# Altium footprint library PcbLib1.PcbLib: 35 footprints (part 1 of 3)
Each footprint in its own frame and in the unit in brackets; x right, y up, seen from the top. Pads: shape width x height; smd on the part's side, far side on the other; paste and mask are expansions set on the pad; w line width, h text height; cw(c..) or ccw(c..) is an arc to the next point about the centre after c.
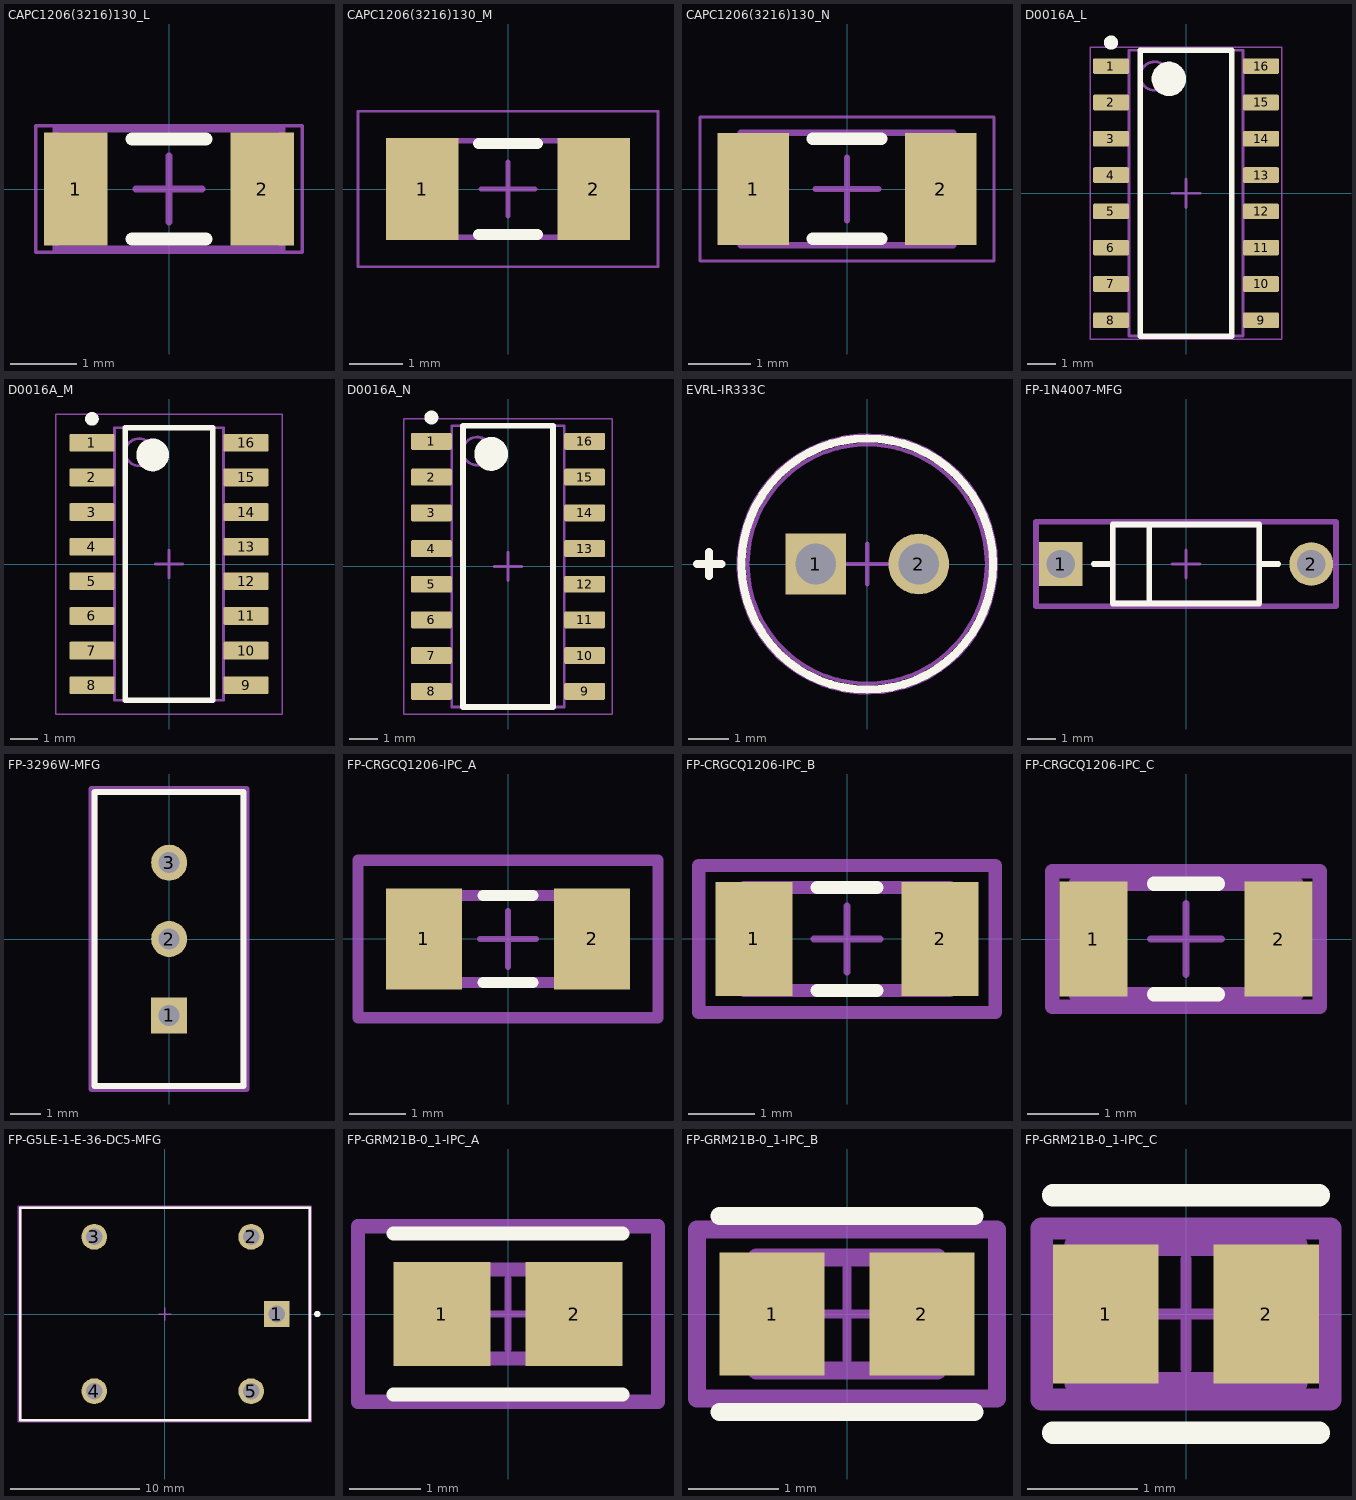
[diagram p0: the footprints below, top view; thin cyan lines are the x and y axes]

## CAPC1206(3216)130_L [mm] "Chip Capacitor, Body 3.2x1.6mm, Height 1.3mm, IPC High Density"
height 1.3
pads (2):
  rect 0.95x1.7 smd: 1(-1.4,0) 2(1.4,0)
Top Overlay:
  lines w0.2: -0.55,-0.75 0.55,-0.75 ; -0.55,0.75 0.55,0.75
Top 3D Body:
  lines w0.1: -1.7,-0.9 -1.7,0.9 1.7,0.9 1.7,-0.9 -1.7,-0.9
Top Courtyard:
  lines w0.05: -2,-0.95 -2,0.95 2,0.95 2,-0.95 -2,-0.95
  lines w0.1: -0.5,0 0.5,0 ; 0,-0.5 0,0.5
3D body: height 1.3, standoff 0, extent -1.4,-1 1,0.8
3D body: height 1.3, standoff 0, extent -1.7,-0.9 -1.2,0.9
3D body: height 1.3, standoff 0, extent 1.2,-0.9 1.7,0.9

## CAPC1206(3216)130_M [mm] "Chip Capacitor, Body 3.2x1.6mm, Height 1.3mm, IPC Low Density"
height 1.3
pads (2):
  rect 1.35x1.9 smd: 1(-1.6,0) 2(1.6,0)
Top Overlay:
  lines w0.2: -0.55,-0.85 0.55,-0.85 ; -0.55,0.85 0.55,0.85
Top 3D Body:
  lines w0.1: -1.7,-0.9 1.7,-0.9 1.7,0.9 -1.7,0.9 -1.7,-0.9
Top Courtyard:
  lines w0.05: -2.8,-1.45 2.8,-1.45 2.8,1.45 -2.8,1.45 -2.8,-1.45
  lines w0.1: -0.5,0 0.5,0 ; 0,-0.5 0,0.5
3D body: height 1.3, standoff 0, extent 1.2,-0.9 1.7,0.9
3D body: height 1.3, standoff 0, extent -1.7,-0.9 -1.2,0.9
3D body: height 1.3, standoff 0, extent -1.2,-0.9 1.2,0.9

## CAPC1206(3216)130_N [mm] "Chip Capacitor, Body 3.2x1.6mm, Height 1.3mm, IPC Medium Density"
height 1.3
pads (2):
  rect 1.15x1.8 smd: 1(-1.5,0) 2(1.5,0)
Top Overlay:
  lines w0.2: -0.55,-0.8 0.55,-0.8 ; -0.55,0.8 0.55,0.8
Top 3D Body:
  lines w0.1: -1.7,-0.9 1.7,-0.9 1.7,0.9 -1.7,0.9 -1.7,-0.9
Top Courtyard:
  lines w0.05: -2.35,-1.15 2.35,-1.15 2.35,1.15 -2.35,1.15 -2.35,-1.15
  lines w0.1: -0.5,0 0.5,0 ; 0,-0.5 0,0.5
3D body: height 1.3, standoff 0, extent 1.2,-0.9 1.7,0.9
3D body: height 1.3, standoff 0, extent -1.7,-0.9 -1.2,0.9
3D body: height 1.3, standoff 0, extent -1.2,-0.9 1.2,0.9

## D0016A_L [mm] "SOIC, 16-Leads, Body 10x4mm, Pitch 1.27mm, IPC High Density"
height 1.75
pads (16):
  rrect18% 1.25x0.55 smd: 1(-2.625,4.445) 2(-2.625,3.175) 3(-2.625,1.905) 4(-2.625,0.635) 5(-2.625,-0.635) 6(-2.625,-1.905) 7(-2.625,-3.175) 8(-2.625,-4.445) 9(2.625,-4.445) 10(2.625,-3.175) 11(2.625,-1.905) 12(2.625,-0.635) 13(2.625,0.635) 14(2.625,1.905) 15(2.625,3.175) 16(2.625,4.445)
Top Overlay:
  circle w0.6: c-0.6,4 r0.3
  circle w0.25: c-2.625,5.27 r0.125
  lines w0.2: -1.6,-5 1.6,-5 1.6,5 -1.6,5 -1.6,-5
Mechanical 1:
  text ".Designator" at -1.531,-0.319 h0.8
Top 3D Body:
  circle w0.1: c-1.1,4.1 r0.5
  lines w0.1: -2,-5 2,-5 2,5 -2,5 -2,-5
Top Courtyard:
  lines w0.05: -3.35,-5.1 3.35,-5.1 3.35,5.1 -3.35,5.1 -3.35,-5.1
  lines w0.1: -0.5,0 0.5,0 ; 0,-0.5 0,0.5
3D body "SOIC-16akaD0016AakaM16A.stp": height 1.59, standoff -0.01, extent -2.997,-4.953 2.997,4.953

## D0016A_M [mm] "SOIC, 16-Leads, Body 10x4mm, Pitch 1.27mm, IPC Low Density"
height 1.75
pads (16):
  rrect15% 1.65x0.65 smd: 1(-2.825,4.445) 2(-2.825,3.175) 3(-2.825,1.905) 4(-2.825,0.635) 5(-2.825,-0.635) 6(-2.825,-1.905) 7(-2.825,-3.175) 8(-2.825,-4.445) 9(2.825,-4.445) 10(2.825,-3.175) 11(2.825,-1.905) 12(2.825,-0.635) 13(2.825,0.635) 14(2.825,1.905) 15(2.825,3.175) 16(2.825,4.445)
Top Overlay:
  circle w0.25: c-2.825,5.32 r0.125
  circle w0.6: c-0.6,4 r0.3
  lines w0.2: -1.6,-5 -1.6,5 1.6,5 1.6,-5 -1.6,-5
Mechanical 1:
  text ".Designator" at -1.575,-0.35 h0.8
Top 3D Body:
  circle w0.1: c-1.1,4.1 r0.5
  lines w0.1: -2,-5 -2,5 2,5 2,-5 -2,-5
Top Courtyard:
  lines w0.05: -4.15,-5.5 -4.15,5.5 4.15,5.5 4.15,-5.5 -4.15,-5.5
  lines w0.1: -0.5,0 0.5,0 ; 0,-0.5 0,0.5
3D body "SOIC-16akaD0016AakaM16A.stp": height 1.59, standoff -0.01, extent -2.997,-4.953 2.997,4.953

## D0016A_N [mm] "SOIC, 16-Leads, Body 10x4mm, Pitch 1.27mm, IPC Medium Density"
height 1.75
pads (16):
  rrect17% 1.45x0.6 smd: 1(-2.725,4.445) 2(-2.725,3.175) 3(-2.725,1.905) 4(-2.725,0.635) 5(-2.725,-0.635) 6(-2.725,-1.905) 7(-2.725,-3.175) 8(-2.725,-4.445) 9(2.725,-4.445) 10(2.725,-3.175) 11(2.725,-1.905) 12(2.725,-0.635) 13(2.725,0.635) 14(2.725,1.905) 15(2.725,3.175) 16(2.725,4.445)
Top Overlay:
  circle w0.6: c-0.6,4 r0.3
  circle w0.25: c-2.725,5.295 r0.125
  lines w0.2: -1.6,-5 1.6,-5 1.6,5 -1.6,5 -1.6,-5
Mechanical 1:
  text ".Designator" at -1.575,-0.275 h0.8
Top 3D Body:
  circle w0.1: c-1.1,4.1 r0.5
  lines w0.1: -2,-5 2,-5 2,5 -2,5 -2,-5
Top Courtyard:
  lines w0.05: -3.7,-5.25 3.7,-5.25 3.7,5.25 -3.7,5.25 -3.7,-5.25
  lines w0.1: -0.5,0 0.5,0 ; 0,-0.5 0,0.5
3D body "SOIC-16akaD0016AakaM16A.stp": height 1.59, standoff -0.01, extent -2.997,-4.953 2.997,4.953

## EVRL-IR333C [mm] "TH, 2-Leads, Radius 2.95mm, Pitch 2.54mm"
height 10.4
pads (2):
  rect 1.5x1.5 hole 1: 1(-1.27,0)
  round 1.5 hole 1: 2(1.27,0)
Top Overlay:
  circle w0.2: c0,0 r3.1
  lines w0.2: -4.2,0 -3.6,0 ; -3.9,-0.3 -3.9,0.3
Top 3D Body:
  circle w0.1: c0,0 r2.95
Top Courtyard:
  circle w0.05: c0,0 r3.2
  lines w0.1: -0.5,0 0.5,0 ; 0,-0.5 0,0.5
3D body: height 10.4, standoff 1.5, extent -2.499,-2.499 2.499,2.499
3D body: height 2.5, standoff 1.5, extent -2.949,-2.949 2.949,2.949

## FP-1N4007-MFG [mm]
pads (2):
  rect 1.55x1.55 hole 1 paste-2539.97 mask+0: 1(-4.44,0)
  round 1.55 hole 1 paste-2539.97 mask+0: 2(4.44,0)
Top Overlay:
  lines w0.2: -3.265,0 -2.6,0 ; -1.3,-1.33 -1.3,1.33 ; 2.6,0 3.265,0 ; -2.6,-1.4 2.6,-1.4 2.6,1.4 -2.6,1.4 -2.6,-1.4
Top Assembly:
  lines w0.2: -5.315,-1.5 5.315,-1.5 5.315,1.5 -5.315,1.5 -5.315,-1.5
  text ".Designator" at 0,0.188 h1
Top 3D Body:
  lines w0.2: -2.6,-1.4 2.6,-1.4 2.6,1.4 -2.6,1.4 -2.6,-1.4
Top Courtyard:
  lines w0.2: -5.315,-1.5 5.315,-1.5 5.315,1.5 -5.315,1.5 -5.315,-1.5
Top Component Center:
  lines w0.1: -0.5,0 0.5,0 ; 0,-0.5 0,0.5
3D body "Diode_Diotec_1N4007_eec.STEP": height 0.25, standoff 0, extent -5.315,-1.5 5.315,1.5

## FP-3296W-MFG [mm]
pads (3):
  rect 1.2x1.2 hole 0.7 paste-2539.97 mask+0: 1(0.005,-2.54)
  round 1.2 hole 0.7 paste-2539.97 mask+0: 2(0.005,0) 3(0.005,2.54)
Top Overlay:
  lines w0.2: -2.48,-4.89 2.48,-4.89 2.48,4.89 -2.48,4.89 -2.48,-4.89
Top Assembly:
  lines w0.2: -2.58,-4.99 2.58,-4.99 2.58,4.99 -2.58,4.99 -2.58,-4.99
  text ".Designator" at 0,-0.001 h1
Top 3D Body:
  lines w0.2: -2.48,-4.89 2.48,-4.89 2.48,4.89 -2.48,4.89 -2.48,-4.89
Top Courtyard:
  lines w0.2: -2.58,-4.99 2.58,-4.99 2.58,4.99 -2.58,4.99 -2.58,-4.99
Top Component Center:
  lines w0.1: -0.5,0 0.5,0 ; 0,-0.5 0,0.5
3D body "Res_Bourns_3296W-1-103RLF_eec.STEP": height 0.25, standoff 0, extent -2.58,-4.99 2.58,4.99

## FP-CRGCQ1206-IPC_A [mm]
pads (2):
  rect 1.356x1.81 smd paste+0 mask+0: 1(-1.501,0) 2(1.501,0)
Top Overlay:
  lines w0.2: -0.448,-0.775 0.448,-0.775 ; -0.448,0.775 0.448,0.775
Top Assembly:
  lines w0.2: -2.679,-1.405 -2.679,1.405 2.679,1.405 2.679,-1.405 -2.679,-1.405
  text ".Designator" at 0,0.188 h1
Top 3D Body:
  lines w0.2: -1.55,-0.775 -1.55,0.775 1.55,0.775 1.55,-0.775 -1.55,-0.775
Top Courtyard:
  lines w0.2: -2.679,-1.405 -2.679,1.405 2.679,1.405 2.679,-1.405 -2.679,-1.405
Top Component Center:
  lines w0.1: -0.5,0 0.5,0 ; 0,-0.5 0,0.5
3D body "Res_TE_Connectivity_CRGCQ1206F33R_eec.STEP": height 0.25, standoff 0, extent -2.679,-1.405 2.679,1.405

## FP-CRGCQ1206-IPC_B [mm]
pads (2):
  rect 1.156x1.71 smd paste+0 mask+0: 1(-1.401,0) 2(1.401,0)
Top Overlay:
  lines w0.2: -0.448,-0.775 0.448,-0.775 ; -0.448,0.775 0.448,0.775
Top Assembly:
  lines w0.2: -2.229,-1.105 -2.229,1.105 2.229,1.105 2.229,-1.105 -2.229,-1.105
  text ".Designator" at 0,0.188 h1
Top 3D Body:
  lines w0.2: -1.55,-0.775 -1.55,0.775 1.55,0.775 1.55,-0.775 -1.55,-0.775
Top Courtyard:
  lines w0.2: -2.229,-1.105 -2.229,1.105 2.229,1.105 2.229,-1.105 -2.229,-1.105
Top Component Center:
  lines w0.1: -0.5,0 0.5,0 ; 0,-0.5 0,0.5
3D body "Res_TE_Connectivity_CRGCQ1206F33R_eec.STEP": height 0.25, standoff 0, extent -2.229,-1.105 2.229,1.105

## FP-CRGCQ1206-IPC_C [mm]
pads (2):
  rect 0.956x1.61 smd paste+0 mask+0: 1(-1.301,0) 2(1.301,0)
Top Overlay:
  lines w0.2: -0.448,-0.775 0.448,-0.775 ; -0.448,0.775 0.448,0.775
Top Assembly:
  lines w0.2: -1.879,-0.95 -1.879,0.95 1.879,0.95 1.879,-0.95 -1.879,-0.95
  text ".Designator" at 0,0.188 h1
Top 3D Body:
  lines w0.2: -1.55,-0.775 -1.55,0.775 1.55,0.775 1.55,-0.775 -1.55,-0.775
Top Courtyard:
  lines w0.2: -1.879,-0.95 -1.879,0.95 1.879,0.95 1.879,-0.95 -1.879,-0.95
Top Component Center:
  lines w0.1: -0.5,0 0.5,0 ; 0,-0.5 0,0.5
3D body "Res_TE_Connectivity_CRGCQ1206F33R_eec.STEP": height 0.25, standoff 0, extent -1.879,-0.95 1.879,0.95

## FP-G5LE-1-E-36-DC5-MFG [mm]
pads (5):
  rect 2x2 hole 1.3 paste-2539.97 mask+0: 1(8.7,0)
  round 2 hole 1.3 paste-2539.97 mask+0: 2(6.7,6) 3(-5.5,6) 4(-5.5,-6) 5(6.7,-6)
Top Overlay:
  circle w0.25: c11.85,0 r0.125
  lines w0.2: -11.25,-8.25 11.25,-8.25 11.25,8.25 -11.25,8.25 -11.25,-8.25
Top Assembly:
  lines w0.2: -11.35,-8.35 11.35,-8.35 11.35,8.35 -11.35,8.35 -11.35,-8.35
  text ".Designator" at 0,0.188 h1
Top 3D Body:
  lines w0.2: -11.25,-8.25 11.25,-8.25 11.25,8.25 -11.25,8.25 -11.25,-8.25
Top Courtyard:
  lines w0.2: -11.35,-8.35 11.35,-8.35 11.35,8.35 -11.35,8.35 -11.35,-8.35
Top Component Center:
  lines w0.1: -0.5,0 0.5,0 ; 0,-0.5 0,0.5
3D body "Relay_Omron_G5LE-1-E-36-DC5_eec.STEP": height 0.25, standoff 0, extent -11.35,-8.35 11.35,8.35

## FP-GRM21B-0_1-IPC_A [mm]
pads (2):
  rect 1.358x1.462 smd paste+0 mask+0: 1(-0.927,0) 2(0.927,0)
Top Overlay:
  lines w0.2: -1.606,-1.131 1.606,-1.131 ; -1.606,1.131 1.606,1.131
Top Assembly:
  lines w0.2: -2.106,-1.231 2.106,-1.231 2.106,1.231 -2.106,1.231 -2.106,-1.231
  text ".Designator" at 0,0.188 h1
Top 3D Body:
  lines w0.2: -1,-0.625 1,-0.625 1,0.625 -1,0.625 -1,-0.625
Top Courtyard:
  lines w0.2: -2.106,-1.231 2.106,-1.231 2.106,1.231 -2.106,1.231 -2.106,-1.231
Top Component Center:
  lines w0.1: -0.5,0 0.5,0 ; 0,-0.5 0,0.5
3D body "Cap_Murata_GRM21BR61C106KE15K_eec.STEP": height 0.25, standoff 0, extent -2.106,-1.231 2.106,1.231

## FP-GRM21B-0_1-IPC_B [mm]
pads (2):
  rect 1.158x1.362 smd paste+0 mask+0: 1(-0.827,0) 2(0.827,0)
Top Overlay:
  lines w0.2: -1.406,-1.081 1.406,-1.081 ; -1.406,1.081 1.406,1.081
Top Assembly:
  lines w0.2: -1.656,-0.931 -1.656,0.931 1.656,0.931 1.656,-0.931 -1.656,-0.931
  text ".Designator" at 0,0.188 h1
Top 3D Body:
  lines w0.2: -1,-0.625 -1,0.625 1,0.625 1,-0.625 -1,-0.625
Top Courtyard:
  lines w0.2: -1.656,-0.931 -1.656,0.931 1.656,0.931 1.656,-0.931 -1.656,-0.931
Top Component Center:
  lines w0.1: -0.5,0 0.5,0 ; 0,-0.5 0,0.5
3D body "Cap_Murata_GRM21BR61C106KE15K_eec.STEP": height 0.25, standoff 0, extent -1.656,-0.931 1.656,0.931

## FP-GRM21B-0_1-IPC_C [mm]
pads (2):
  rect 0.958x1.262 smd paste+0 mask+0: 1(-0.727,0) 2(0.727,0)
Top Overlay:
  lines w0.2: -1.206,-1.075 1.206,-1.075 ; -1.206,1.075 1.206,1.075
Top Assembly:
  lines w0.2: -1.306,-0.775 1.306,-0.775 1.306,0.775 -1.306,0.775 -1.306,-0.775
  text ".Designator" at 0,0.188 h1
Top 3D Body:
  lines w0.2: -1,-0.625 1,-0.625 1,0.625 -1,0.625 -1,-0.625
Top Courtyard:
  lines w0.2: -1.306,-0.775 1.306,-0.775 1.306,0.775 -1.306,0.775 -1.306,-0.775
Top Component Center:
  lines w0.1: -0.5,0 0.5,0 ; 0,-0.5 0,0.5
3D body "Cap_Murata_GRM21BR61C106KE15K_eec.STEP": height 0.25, standoff 0, extent -1.306,-0.775 1.306,0.775